# Altium integrated library TBL008V-1000-03BE.IntLib: 1 symbol
Pins are listed as number, name and electrical type; pins without a type are passive.

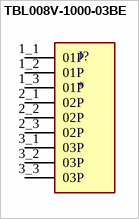
[diagram p0: symbol TBL008V-1000-03BE]

## TBL008V-1000-03BE
designator J?
MP: TBL008V-1000-03BE; Package: None; Price: None; Value: *; Availability: Unavailable
footprint CUI_TBL008V-1000-03BE
pins: 1_1 01P, 1_2 01P, 1_3 01P, 2_1 02P, 2_2 02P, 2_3 02P, 3_1 03P, 3_2 03P, 3_3 03P